# EAGLE library part PICO (library ds_boards)
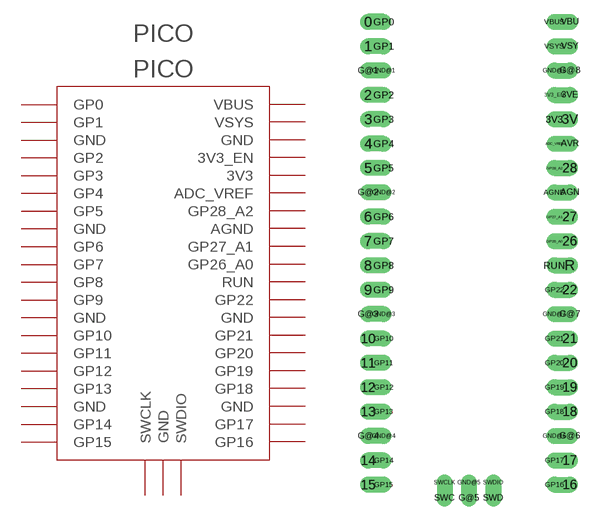
[diagram p1: symbol with the pads of PICO; footprint PICO]

Designator prefix PICO

## PICO  [PICO]
0  GP0
1  GP1
2  GP2
3  GP3
3V  3V3
3V3  3V3
3V3_EN  3V3_EN
3VE  3V3_EN
4  GP4
5  GP5
6  GP6
7  GP7
8  GP8
9  GP9
10  GP10
11  GP11
12  GP12
13  GP13
14  GP14
15  GP15
16  GP16
17  GP17
18  GP18
19  GP19
20  GP20
21  GP21
22  GP22
26  GP26_A0
27  GP27_A1
28  GP28_A2
ADC_VREF  ADC_VREF
AGN  AGND
AGND  AGND
AVR  ADC_VREF
G@1  GND
G@2  GND
G@3  GND
G@4  GND
G@5  GND
G@6  GND
G@7  GND
G@8  GND
GND@1  GND
GND@2  GND
GND@3  GND
GND@4  GND
GND@5  GND
GND@6  GND
GND@7  GND
GND@8  GND
GP0  GP0
GP1  GP1
GP2  GP2
GP3  GP3
GP4  GP4
GP5  GP5
GP6  GP6
GP7  GP7
GP8  GP8
GP9  GP9
GP10  GP10
GP11  GP11
GP12  GP12
GP13  GP13
GP14  GP14
GP15  GP15
GP16  GP16
GP17  GP17
GP18  GP18
GP19  GP19
GP20  GP20
GP21  GP21
GP22  GP22
GP26_A0  GP26_A0
GP27_A1  GP27_A1
GP28_A2  GP28_A2
R  RUN
RUN  RUN
SWC  SWCLK
SWCLK  SWCLK
SWD  SWDIO
SWDIO  SWDIO
VBU  VBUS
VBUS  VBUS
VSY  VSYS
VSYS  VSYS

## Footprint PICO (pad centres in mm)
drill 1: 0 -10.5,25.4; 1 -10.5,22.86; 2 -10.5,17.78; 3 -10.5,15.24; 3V 10.515,15.265; 3VE 10.515,17.805; 4 -10.5,12.7; 5 -10.5,10.16; 6 -10.5,5.08; 7 -10.5,2.54; 8 -10.5,0; 9 -10.5,-2.54; 10 -10.5,-7.62; 11 -10.5,-10.16; 12 -10.5,-12.7; 13 -10.5,-15.24; 14 -10.5,-20.32; 15 -10.5,-22.86; 16 10.515,-22.835; 17 10.515,-20.295; 18 10.515,-15.215; 19 10.515,-12.675; 20 10.515,-10.135; 21 10.515,-7.595; 22 10.515,-2.515; 26 10.515,2.565; 27 10.515,5.105; 28 10.515,10.185; AGN 10.515,7.645; AVR 10.515,12.725; G@1 -10.5,20.32; G@2 -10.5,7.62; G@3 -10.5,-5.08; G@4 -10.5,-17.78; G@5 0,-24.235; G@6 10.515,-17.755; G@7 10.515,-5.055; G@8 10.515,20.345; R 10.515,0.025; SWC -2.54,-24.235; SWD 2.54,-24.235; VBU 10.515,25.425; VSY 10.515,22.885
drill 1.1 pad 1.6 offset: 3V3 8.89,15.24; 3V3_EN 8.89,17.78; ADC_VREF 8.89,12.7; AGND 8.89,7.62; GND@1 -8.89,20.32; GND@2 -8.89,7.62; GND@3 -8.89,-5.08; GND@4 -8.89,-17.78; GND@5 0,-22.63; GND@6 8.89,-17.78; GND@7 8.89,-5.08; GND@8 8.89,20.32; GP0 -8.89,25.4; GP1 -8.89,22.86; GP2 -8.89,17.78; GP3 -8.89,15.24; GP4 -8.89,12.7; GP5 -8.89,10.16; GP6 -8.89,5.08; GP7 -8.89,2.54; GP8 -8.89,0; GP9 -8.89,-2.54; GP10 -8.89,-7.62; GP11 -8.89,-10.16; GP12 -8.89,-12.7; GP13 -8.89,-15.24; GP14 -8.89,-20.32; GP15 -8.89,-22.86; GP16 8.89,-22.86; GP17 8.89,-20.32; GP18 8.89,-15.24; GP19 8.89,-12.7; GP20 8.89,-10.16; GP21 8.89,-7.62; GP22 8.89,-2.54; GP26_A0 8.89,2.54; GP27_A1 8.89,5.08; GP28_A2 8.89,10.16; RUN 8.89,0; SWCLK -2.54,-22.63; SWDIO 2.54,-22.63; VBUS 8.89,25.4; VSYS 8.89,22.86